# EAGLE library part HRS-DM3D (library ac)
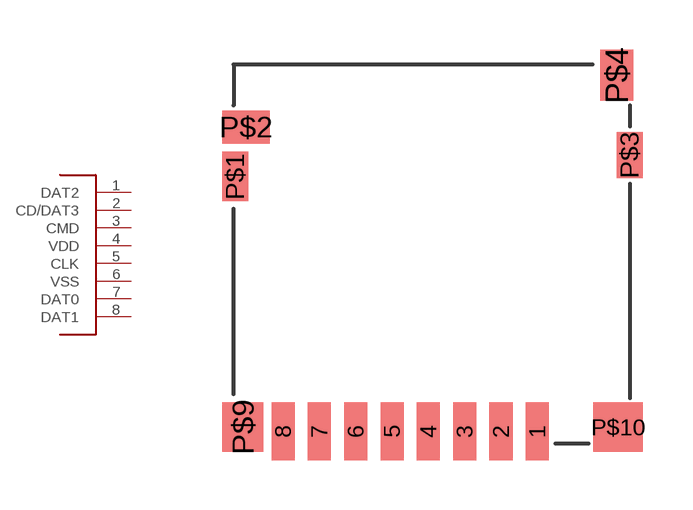
[diagram p1: symbol with the pads of HRS-DM3D; footprint HRS-DM3D]

Designator prefix -

## HRS-DM3D  [HRS-DM3D]
1  DAT2
2  CD/DAT3
3  CMD
4  VDD  pwr
5  CLK  in
6  VSS  pwr
7  DAT0
8  DAT1

## Footprint HRS-DM3D (pad centres in mm)
smd 0.7 x 1.75: 1 7.7,-0.875; 2 6.6,-0.875; 3 5.5,-0.875; 4 4.4,-0.875; 5 3.3,-0.875; 6 2.2,-0.875; 7 1.1,-0.875; 8 0,-0.875
smd 0.8 x 1.5: P$1 -1.45,6.85
smd 1.45 x 1: P$2 -1.125,8.35
smd 0.8 x 1.4: P$3 10.5,7.5
smd 1 x 1.55: P$4 10.11,9.925
smd 1.25 x 1.5: P$9 -1.225,-0.75
smd 1.5 x 1.5: P$10 10.15,-0.75